# EAGLE library part ADP3110A (library custom)
MOSFET Driver Dual Bootstrapped 12 V w/Output Disable 3nF 25ns Synchronous
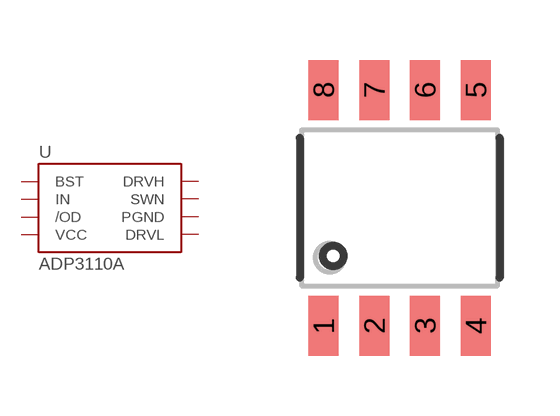
[diagram p148: symbol with the pads of 8-SOIC; footprint 8-SOIC]

Designator prefix U

## ADP3110A  [8-SOIC]
1  BST
2  IN
3  /OD
4  VCC
5  DRVL
6  PGND
7  SWN
8  DRVH

## Footprint 8-SOIC (pad centres in mm)
smd 0.75 x 1.5: 1 -1.905,-2.95; 2 -0.635,-2.95; 3 0.635,-2.95; 4 1.905,-2.95; 5 1.905,2.95; 6 0.635,2.95; 7 -0.635,2.95; 8 -1.905,2.95